# Altium integrated library Altera APEX II.IntLib: 30 symbols (part 15 of 15)
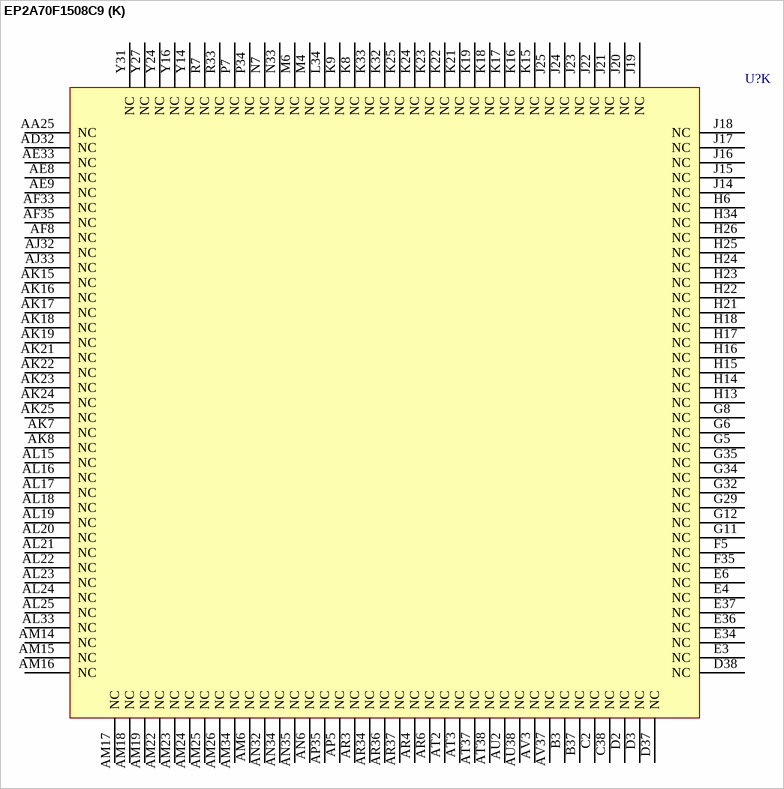
[diagram p144: symbol EP2A70F1508C9]

## EP2A70F1508C9
designator U?
APEX II, 1.5V FPGA with 4 PLLs, 1060 I/O pins, Commercial Grade, Speed Grade 9; Published: 23-Sep-2002; LatestRevisionDate: 13-Apr-2006; LatestRevisionNote: IPC-7351 Footprint Added.; DatasheetVersion: ver3.0, Aug-2002; PackageVersion: ver14.1, Oct-2005; PackageReference: FBGA1508; Publisher: Altium Limited; PackageDescription: 1508-Ball FineLine Ball Grid Array (FBGA1508) - Flip Chip; Code_JEDEC: MS-034-AAU-1; ComponentLink1Description: Manufacturer Link; ComponentLink1URL: http://www.altera.com/products/devices/apex2/ap2-index.html; ComponentLink2Description: Datasheet; ComponentLink2URL: http://www.altera.com/literature/ds/ds_ap2.pdf
footprint FBGA1508 (BGA, 1508-Leads, Body 40x40mm, Pitch 1mm)
3D model EP2A70-FBGA1508 (1508-Ball FineLine Ball Grid Array (FBGA1508) - Flip Chip)
part A pins: A21 IO/FlexDiff_RX73p (io), A22 IO/RDYnBSY/FlexDiff_RX26p (io), A23 IO/FlexDiff_RX76p (io), A24 IO/DATA1/FlexDiff_RX22p (io), A25 VCCIO1 (power), A26 IO/FlexDiff_RX18p (io), A28 IO/FlexDiff_RX17p (io), A29 IO/FlexDiff_RX79p (io), A30 IO/FlexDiff_RX82n (io), A31 IO/FlexDiff_RX84n (io), A32 IO/FlexDiff_RX09n (io), A33 IO/FlexDiff_RX07n (io), A34 IO/FlexDiff_RX05n (io), A35 IO/FlexDiff_RX04n (io), A36 VCCIO1 (power), B21 IO/FlexDiff_RX73n (io), B22 IO/FlexDiff_RX26n (io), B23 IO/FlexDiff_RX76n (io), B24 IO/FlexDiff_RX22n (io), B25 IO/FlexDiff_RX20p (io), B26 IO/FlexDiff_RX20n (io), B27 IO/FlexDiff_RX18n (io), B28 IO/FlexDiff_RX17n (io), B29 IO/FlexDiff_RX79n (io), B30 IO/FlexDiff_RX82p (io), B31 IO/FlexDiff_RX84p (io), B32 IO/FlexDiff_RX09p (io), B33 IO/FlexDiff_RX07p (io), B34 IO/FlexDiff_RX05p (io), B35 IO/FlexDiff_RX04p (io), B36 IO/DATA4/FlexDiff_RX01n (io), C20 IO/FlexDiff_RX28p (io), C21 IO/FlexDiff_RX27p (io), C22 IO/FlexDiff_RX75p (io), C23 IO/FlexDiff_RX24p (io), C24 IO/FlexDiff_RX21p (io), C25 IO/FlexDiff_RX19p (io), C26 IO/FlexDiff_RX77p (io), C27 IO/FlexDiff_RX78p (io), C28 IO/FlexDiff_RX16p (io), C29 IO/FlexDiff_RX12n (io), C30 IO/FlexDiff_RX11n (io), C31 IO/FlexDiff_RX10n (io), C32 IO/FlexDiff_RX08n (io), C33 IO/FlexDiff_RX06n (io), C34 IO/FlexDiff_RX85n (io), C35 IO/FlexDiff_RX86n (io), C36 IO/FlexDiff_RX01p (io), D20 IO/FlexDiff_RX28n (io), D21 IO/INIT_DONE/FlexDiff_RX27n (io), D22 IO/FlexDiff_RX75n (io), D23 IO/CLKUSR/FlexDiff_RX24n (io), D24 IO/FlexDiff_RX21n (io), D25 IO/FlexDiff_RX19n (io), D26 IO/FlexDiff_RX77n (io), D27 IO/FlexDiff_RX78n (io), D28 IO/FlexDiff_RX16n (io), D29 IO/FlexDiff_RX12p (io), D30 IO/FlexDiff_RX11p (io), D31 IO/FlexDiff_RX10p (io), D32 IO/FlexDiff_RX08p (io), D33 IO/FlexDiff_RX06p (io), D34 IO/FlexDiff_RX85p (io), D35 IO/FlexDiff_RX86p (io), E21 IO/FlexDiff_RX74p (io), E22 IO/FlexDiff_RX25p (io), E23 IO/FlexDiff_RX23p (io), E24 IO/FlexDiff_RX80p (io), E25 IO/FlexDiff_RX15p (io), E26 IO/FlexDiff_RX14n (io), E27 IO/FlexDiff_RX81n (io), E28 IO/FlexDiff_RX13n (io), E29 IO/FlexDiff_RX83n (io), E30 IO/DATA5/FlexDiff_RX03n (io), E31 IO/FlexDiff_RX87n (io), E32 IO/FlexDiff_RX02n (io), E33 IO/FlexDiff_RX88n (io), F21 IO/FlexDiff_RX74n (io), F22 IO/FlexDiff_RX25n (io), F23 IO/FlexDiff_RX23n (io), F24 IO/FlexDiff_RX80n (io), F25 IO/FlexDiff_RX15n (io), F26 IO/DATA3/FlexDiff_RX14p (io), F27 IO/FlexDiff_RX81p (io), F28 IO/FlexDiff_RX13p (io), F29 IO/FlexDiff_RX83p (io), F30 IO/FlexDiff_RX03p (io), F31 IO/FlexDiff_RX87p (io), F32 IO/FlexDiff_RX02p (io), F33 IO/FlexDiff_RX88p (io), G23 IO (io), G24 VREFC1 (power), G25 IO/DATA2 (io), G26 IO (io), G27 IO (io), G31 VCCIO1 (power), H20 VCCIO1 (power), L21 VCCIO1 (power), L22 VCCIO1 (power), L23 VCCIO1 (power)
part B pins: A4 VCCIO2 (power), A5 IO/FlexDiff_RX32n (io), A6 IO/FlexDiff_RX33p (io), A7 IO/FlexDiff_RX35n (io), A8 IO/FlexDiff_RX37n (io), A9 IO/FlexDiff_RX61n (io), A10 IO/FlexDiff_RX63n (io), A11 IO/FlexDiff_RX66p (io), A12 IO/FlexDiff_RX45p (io), A14 IO/FlexDiff_RX46p (io), A15 VCCIO2 (power), A16 IO/FlexDiff_RX50p (io), A17 IO/FlexDiff_RX69p (io), A18 IO/FlexDiff_RX54p (io), A19 IO/FlexDiff_RX55p (io), A20 IO/FlexDiff_RX72p (io), B4 IO/FlexDiff_RX29n (io), B5 IO/FlexDiff_RX32p (io), B6 IO/FlexDiff_RX33n (io), B7 IO/FlexDiff_RX35p (io), B8 IO/FlexDiff_RX37p (io), B9 IO/FlexDiff_RX61p (io), B10 IO/FlexDiff_RX63p (io), B11 IO/FlexDiff_RX66n (io), B12 IO/FlexDiff_RX45n (io), B13 IO/FlexDiff_RX46n (io), B14 IO/FlexDiff_RX48n (io), B15 IO/FlexDiff_RX48p (io), B16 IO/FlexDiff_RX50n (io), B17 IO/FlexDiff_RX69n (io), B18 IO/FlexDiff_RX54n (io), B19 IO/FlexDiff_RX55n (io), B20 IO/FlexDiff_RX72n (io), C4 IO/FlexDiff_RX29p (io), C5 IO/FlexDiff_RX59n (io), C6 IO/FlexDiff_RX60n (io), C7 IO/FlexDiff_RX34n (io), C8 IO/FlexDiff_RX36n (io), C9 IO/FlexDiff_RX38n (io), C10 IO/FlexDiff_RX39n (io), C11 IO/FlexDiff_RX40n (io), C12 IO/FlexDiff_RX44p (io), C13 IO/FlexDiff_RX67p (io), C14 IO/FlexDiff_RX68p (io), C15 IO/FlexDiff_RX47p (io), C16 IO/FlexDiff_RX49p (io), C17 IO/FlexDiff_RX52p (io), C18 IO/FlexDiff_RX70p (io), C19 IO/FlexDiff_RX71p (io), D5 IO/FlexDiff_RX59p (io), D6 IO/FlexDiff_RX60p (io), D7 IO/FlexDiff_RX34p (io), D8 IO/FlexDiff_RX36p (io), D9 IO/FlexDiff_RX38p (io), D10 IO/FlexDiff_RX39p (io), D11 IO/FlexDiff_RX40p (io), D12 IO/FlexDiff_RX44n (io), D13 IO/FlexDiff_RX67n (io), D14 IO/FlexDiff_RX68n (io), D15 IO/FlexDiff_RX47n (io), D16 IO/FlexDiff_RX49n (io), D17 IO/FlexDiff_RX52n (io), D18 IO/FlexDiff_RX70n (io), D19 IO/FlexDiff_RX71n (io), E7 IO/FlexDiff_RX57n (io), E8 IO/FlexDiff_RX30n (io), E9 IO/FlexDiff_RX58n (io), E10 IO/FlexDiff_RX31n (io), E11 IO/FlexDiff_RX62n (io), E12 IO/FlexDiff_RX41n (io), E13 IO/FlexDiff_RX64n (io), E14 IO/FlexDiff_RX42n (io), E15 IO/FlexDiff_RX43p (io), E16 IO/FlexDiff_RX65p (io), E17 IO/FlexDiff_RX51p (io), E18 IO/FlexDiff_RX53p (io), E19 VCCIO2 (power), E20 IO/FlexDiff_RX56p (io), F7 IO/FlexDiff_RX57p (io), F8 IO/FlexDiff_RX30p (io), F9 IO/FlexDiff_RX58p (io), F10 IO/FlexDiff_RX31p (io), F11 IO/FlexDiff_RX62p (io), F12 IO/FlexDiff_RX41p (io), F13 IO/FlexDiff_RX64p (io), F14 IO/FlexDiff_RX42p (io), F15 IO/FlexDiff_RX43n (io), F16 IO/FlexDiff_RX65n (io), F17 IO/FlexDiff_RX51n (io), F18 IO/FlexDiff_RX53n (io), F20 IO/FlexDiff_RX56n (io), G9 VCCIO2 (power), G13 VREFC2 (power), G14 IO (io), G15 IO (io), G16 IO (io), G17 IO (io), L17 VCCIO2 (power), L18 VCCIO2 (power), L19 VCCIO2 (power)
part C pins: D1 VCCIO3 (power), E1 IO/TrueDiff_RX01p (io), E2 IO/TrueDiff_RX01n (io), F1 IO/TrueDiff_RX03p (io), F2 IO/TrueDiff_RX03n (io), F3 IO/TrueDiff_RX02n (io), F4 IO/TrueDiff_RX02p (io), G1 IO/TrueDiff_RX05p (io), G2 IO/TrueDiff_RX05n (io), G3 IO/TrueDiff_RX04n (io), G4 IO/TrueDiff_RX04p (io), G10 IO (io), H1 IO/TrueDiff_RX07p (io), H2 IO/TrueDiff_RX07n (io), H3 IO/TrueDiff_RX06n (io), H4 IO/TrueDiff_RX06p (io), H5 IO (io), H7 IO (io), H8 VCCIO3 (power), H9 IO (io), H10 IO (io), H11 IO (io), H12 IO (io), J1 IO/TrueDiff_RX08n (io), J2 IO/TrueDiff_RX08p (io), J3 IO/TrueDiff_RX09p (io), J4 IO/TrueDiff_RX09n (io), J5 IO (io), J6 IO (io), J7 IO (io), J8 IO (io), J9 IO/RXLOCK1 (io), J10 IO (io), J11 IO (io), J12 IO (io), J13 IO (io), K1 IO/TrueDiff_RX10n (io), K2 IO/TrueDiff_RX10p (io), K3 IO/TrueDiff_RX11p (io), K4 IO/TrueDiff_RX11n (io), K5 IO (io), K6 IO (io), K7 IO (io), K10 IO (io), K11 IO (io), K12 IO (io), K13 IO (io), K14 IO (io), L1 IO/TrueDiff_RX12n (io), L2 IO/TrueDiff_RX12p (io), L3 IO/TrueDiff_RX13p (io), L4 IO/TrueDiff_RX13n (io), L5 IO (io), L6 IO (io), L7 IO (io), L8 IO (io), L9 IO (io), L10 IO (io), L11 IO (io), L12 IO (io), L13 IO (io), L14 IO (io), L15 IO (io), M1 IO/TrueDiff_RX14n (io), M2 IO/TrueDiff_RX14p (io), M3 IO (io), M5 IO (io), M7 IO (io), M8 IO (io), M9 IO (io), M10 IO (io), M11 IO (io), M12 IO (io), M13 IO (io), M14 IO (io), M15 IO (io), N2 IO/TrueDiff_RX15p (io), N3 IO (io), N4 IO (io), N5 IO (io), N6 IO (io), N8 IO (io), N9 IO (io), N10 IO (io), N11 IO (io), N12 IO (io), N13 IO (io), N14 IO (io), N15 IO (io), P1 IO/TrueDiff_RX15n (io), P2 IO/TrueDiff_RX16n (io), P3 IO (io), P4 IO (io), P5 IO (io), P6 IO (io), P8 IO (io), P9 IO (io), P10 IO (io), P11 IO (io), P12 IO (io), P13 IO (io), P14 IO (io), P15 IO (io), R1 VCCIO3 (power), R2 IO/TrueDiff_RX16p (io), R3 IO (io), R4 IO (io), R5 IO (io), R6 IO (io), R8 IO (io), R9 IO (io), R10 IO (io), R11 IO (io), R12 IO (io), R13 IO (io), R14 IO (io), R15 IO (io), R16 VCCIO3 (power), T1 IO/TrueDiff_RX17p (io), T2 IO/TrueDiff_RX17n (io), T3 IO (io), T4 IO (io), T5 IO (io), T6 IO (io), T7 IO (io), T8 IO (io), T9 IO (io), T10 IO (io), T11 IO (io), T12 IO (io), T13 IO (io), T14 IO (io), T15 IO (io), U1 IO/TrueDiff_RX18n (io), U2 IO/TrueDiff_RX18p (io), U3 IO (io), U4 IO (io), U5 IO (io), U6 IO (io), U7 IO (io), U8 IO (io), U9 IO (io), U10 IO (io), U12 IO (io), U13 IO (io), U14 IO (io), U15 IO (io), U16 VCCIO3 (power), V1 IO/RXCLK_IN1n (io), V2 IO/RXCLK_IN1p (io), V3 IO (io), V4 IO (io), V5 IO (io), V6 IO (io), V7 IO (io), V8 IO (io), V9 IO (io), V10 IO (io), V13 IO (io), V14 IO (io), V15 IO (io), W1 CLK7p (in), W2 IO/CLK7n (io), W3 CLK5p (in), W4 IO/CLK5n (io), W5 IO (io), W6 IO (io), W7 IO (io), W8 VREFC3 (power), W9 IO (io), W10 IO/LOCK3 (io), W13 IO (io), W14 IO (io), W15 IO (io), W16 VCCIO3 (power), Y3 CLKLK_OUT1p (out), Y4 IO/CLKLK_OUT1n (io), Y5 IO (io), Y8 VCCIO3 (power)
part D pins: AA1 CLK3p (in), AA2 IO/CLK3n (io), AA3 CLKLK_FB1p, AA4 IO/CLKLK_FB1n (io), AA5 VCCIO4 (power), AA6 IO (io), AA8 IO/LOCK1 (io), AA9 IO (io), AA10 IO (io), AA13 VREFC4 (power), AA14 IO (io), AA16 VCCIO4 (power), AB1 IO/RXCLK_IN2n (io), AB2 IO/RXCLK_IN2p (io), AB3 IO (io), AB4 IO (io), AB5 IO (io), AB6 IO/RXLOCK2 (io), AB7 IO (io), AB8 IO (io), AB9 IO (io), AB10 IO (io), AB13 IO (io), AB14 IO (io), AB15 IO (io), AC1 IO/TrueDiff_RX36n (io), AC2 IO/TrueDiff_RX36p (io), AC3 IO (io), AC4 IO (io), AC5 IO (io), AC6 IO (io), AC7 IO (io), AC8 IO (io), AC9 IO (io), AC10 IO (io), AC12 IO (io), AC13 IO (io), AC14 IO (io), AC15 IO (io), AC16 VCCIO4 (power), AD1 IO/TrueDiff_RX35p (io), AD2 IO/TrueDiff_RX35n (io), AD3 IO (io), AD4 IO (io), AD5 IO (io), AD6 IO (io), AD7 IO (io), AD8 IO (io), AD9 IO (io), AD10 IO (io), AD11 IO (io), AD12 IO (io), AD13 IO (io), AD14 IO (io), AD15 IO (io), AE1 VCCIO4 (power), AE2 IO/TrueDiff_RX34p (io), AE3 IO (io), AE4 IO (io), AE5 IO (io), AE6 IO (io), AE7 IO (io), AE10 IO (io), AE11 IO (io), AE12 IO (io), AE13 IO (io), AE14 IO (io), AE15 IO (io), AE16 VCCIO4 (power), AF1 IO/TrueDiff_RX33n (io), AF2 IO/TrueDiff_RX34n (io), AF3 IO (io), AF4 IO (io), AF5 IO (io), AF6 IO (io), AF7 IO (io), AF9 IO (io), AF10 IO (io), AF11 IO (io), AF12 IO (io), AF13 IO (io), AF14 IO (io), AF15 IO (io), AG2 IO/TrueDiff_RX33p (io), AG3 IO (io), AG4 IO (io), AG5 IO (io), AG6 IO (io), AG7 IO (io), AG8 IO (io), AG9 IO (io), AG10 IO (io), AG11 IO (io), AG12 IO (io), AG13 IO (io), AG14 IO (io), AG15 IO (io), AH1 IO/TrueDiff_RX32n (io), AH2 IO/TrueDiff_RX32p (io), AH3 IO (io), AH4 IO (io), AH5 IO (io), AH6 IO (io), AH7 IO (io), AH8 IO (io), AH9 IO (io), AH10 IO (io), AH11 IO (io), AH12 IO (io), AH13 IO (io), AH14 IO (io), AH15 IO (io), AJ1 IO/TrueDiff_RX30n (io), AJ2 IO/TrueDiff_RX30p (io), AJ3 IO/TrueDiff_RX31p (io), AJ4 IO/TrueDiff_RX31n (io), AJ5 IO (io), AJ6 IO (io), AJ7 IO (io), AJ8 IO (io), AJ9 IO (io), AJ10 IO (io), AJ11 IO (io), AJ12 IO (io), AJ13 IO (io), AJ14 IO (io), AJ15 IO (io), AK1 IO/TrueDiff_RX28n (io), AK2 IO/TrueDiff_RX28p (io), AK3 IO/TrueDiff_RX29p (io), AK4 IO/TrueDiff_RX29n (io), AK5 IO (io), AK6 IO (io), AK9 IO (io), AK10 IO (io), AK11 IO (io), AK12 IO (io), AK13 IO (io), AK14 IO (io), AL1 IO/TrueDiff_RX27p (io), AL2 IO/TrueDiff_RX27n (io), AL3 IO/TrueDiff_RX26n (io), AL4 IO/TrueDiff_RX26p (io), AL5 IO (io), AL6 IO (io), AL7 IO (io), AL8 IO (io), AL9 IO (io), AL10 IO (io), AL11 IO (io), AL12 IO (io), AL13 IO (io), AL14 IO (io), AM1 IO/TrueDiff_RX25p (io), AM2 IO/TrueDiff_RX25n (io), AM3 IO/TrueDiff_RX24n (io), AM4 IO/TrueDiff_RX24p (io), AM5 IO (io), AM7 IO (io), AM8 VCCIO4 (power), AM9 IO (io), AM10 IO (io), AM11 IO (io), AM12 IO (io), AM13 IO (io), AN1 IO/TrueDiff_RX23p (io), AN2 IO/TrueDiff_RX23n (io), AN3 IO/TrueDiff_RX22n (io), AN4 IO/TrueDiff_RX22p (io), AN5 IO (io), AN8 IO (io), AN10 IO (io), AN11 IO (io), AN12 IO (io), AP1 IO/TrueDiff_RX21p (io), AP2 IO/TrueDiff_RX21n (io), AP3 IO/TrueDiff_RX20n (io), AP4 IO/TrueDiff_RX20p (io), AR1 IO/TrueDiff_RX19p (io), AR2 IO/TrueDiff_RX19n (io), AT1 VCCIO4 (power), Y1 CLK1p (in), Y2 IO/CLK1n (io)
part E pins: AJ17 VCCIO5 (power), AJ18 VCCIO5 (power), AJ19 VCCIO5 (power), AM20 VCCIO5 (power), AN9 VCCIO5 (power), AN13 IO (io), AN14 IO (io), AN15 IO (io), AN16 VREFC5 (power), AN17 IO (io), AP7 IO/FlexDiff_TX88p (io), AP8 IO/FlexDiff_TX30p (io), AP9 IO/FlexDiff_TX87p (io), AP10 IO/FlexDiff_TX31p (io), AP11 IO/FlexDiff_TX83p (io), AP12 IO/FlexDiff_TX41p (io), AP13 IO/FlexDiff_TX81p (io), AP14 IO/FlexDiff_TX42p (io), AP15 IO/FlexDiff_TX43n (io), AP16 IO/FlexDiff_TX80n (io), AP17 IO/FlexDiff_TX51n (io), AP18 IO/FlexDiff_TX53n (io), AP19 IO/FlexDiff_TX74n (io), AR7 IO/FlexDiff_TX88n (io), AR8 IO/FlexDiff_TX30n (io), AR9 IO/FlexDiff_TX87n (io), AR10 IO/FlexDiff_TX31n (io), AR11 IO/FlexDiff_TX83n (io), AR12 IO/FlexDiff_TX41n (io), AR13 IO/FlexDiff_TX81n (io), AR14 IO/FlexDiff_TX42n (io), AR15 IO/FlexDiff_TX43p (io), AR16 IO/FlexDiff_TX80p (io), AR17 IO/FlexDiff_TX51p (io), AR18 IO/FlexDiff_TX53p (io), AR19 IO/FlexDiff_TX74p (io), AT5 IO/FlexDiff_TX86p (io), AT6 IO/FlexDiff_TX85p (io), AT7 IO/FlexDiff_TX34p (io), AT8 IO/FlexDiff_TX36p (io), AT9 IO/FlexDiff_TX38p (io), AT10 IO/FlexDiff_TX39p (io), AT11 IO/FlexDiff_TX40p (io), AT12 IO/FlexDiff_TX44n (io), AT13 IO/FlexDiff_TX78n (io), AT14 IO/FlexDiff_TX77n (io), AT15 IO/FlexDiff_TX47n (io), AT16 IO/FlexDiff_TX49n (io), AT17 IO/FlexDiff_TX52n (io), AT18 IO/FlexDiff_TX75n (io), AT19 IO/FlexDiff_TX55n (io), AT20 IO/FlexDiff_TX56n (io), AU4 IO/FlexDiff_TX29p (io), AU5 IO/FlexDiff_TX86n (io), AU6 IO/FlexDiff_TX85n (io), AU7 IO/FlexDiff_TX34n (io), AU8 IO/FlexDiff_TX36n (io), AU9 IO/FlexDiff_TX38n (io), AU10 IO/FlexDiff_TX39n (io), AU11 IO/FlexDiff_TX40n (io), AU12 IO/FlexDiff_TX44p (io), AU13 IO/FlexDiff_TX78p (io), AU14 IO/FlexDiff_TX77p (io), AU15 IO/FlexDiff_TX47p (io), AU16 IO/FlexDiff_TX49p (io), AU17 IO/FlexDiff_TX52p (io), AU18 IO/FlexDiff_TX75p (io), AU19 IO/FlexDiff_TX55p (io), AU20 IO/FlexDiff_TX56p (io), AV4 IO/FlexDiff_TX29n (io), AV5 IO/FlexDiff_TX32p (io), AV6 IO/FlexDiff_TX33p (io), AV7 IO/FlexDiff_TX35p (io), AV8 IO/FlexDiff_TX37p (io), AV9 IO/FlexDiff_TX84p (io), AV10 IO/FlexDiff_TX82p (io), AV11 IO/FlexDiff_TX79n (io), AV12 IO/FlexDiff_TX45n (io), AV13 IO/FlexDiff_TX46n (io), AV14 IO/FlexDiff_TX48n (io), AV15 IO/FlexDiff_TX48p (io), AV16 IO/FlexDiff_TX50n (io), AV17 IO/FlexDiff_TX76n (io), AV18 IO/FlexDiff_TX54n (io), AV19 IO/FlexDiff_TX73n (io), AW4 VCCIO5 (power), AW5 IO/FlexDiff_TX32n (io), AW6 IO/FlexDiff_TX33n (io), AW7 IO/FlexDiff_TX35n (io), AW8 IO/FlexDiff_TX37n (io), AW9 IO/FlexDiff_TX84n (io), AW10 IO/FlexDiff_TX82n (io), AW11 IO/FlexDiff_TX79p (io), AW12 IO/FlexDiff_TX45p (io), AW14 IO/FlexDiff_TX46p (io), AW15 VCCIO5 (power), AW16 IO/FlexDiff_TX50p (io), AW17 IO/FlexDiff_TX76p (io), AW18 IO/FlexDiff_TX54p (io), AW19 IO/FlexDiff_TX73p (io)
part F pins: AJ21 VCCIO6 (power), AJ22 VCCIO6 (power), AJ23 VCCIO6 (power), AN23 IO/CDS_ENA (io), AN24 IO (io), AN25 IO (io), AN26 IO (io), AN27 VREFC6 (power), AN31 VCCIO6 (power), AP20 IO/FlexDiff_TX28n (io), AP22 IO/FlexDiff_TX25n (io), AP23 IO/FlexDiff_TX23n (io), AP24 IO/FlexDiff_TX65n (io), AP25 IO/FlexDiff_TX15n (io), AP26 IO/FlexDiff_TX14p (io), AP27 IO/FlexDiff_TX64p (io), AP28 IO/FlexDiff_TX13p (io), AP29 IO/FlexDiff_TX62p (io), AP30 IO/FlexDiff_TX03p (io), AP31 IO/FlexDiff_TX58p (io), AP32 IO/FlexDiff_TX02p (io), AP33 IO/FlexDiff_TX57p (io), AR20 IO/FlexDiff_TX28p (io), AR21 VCCIO6 (power), AR22 IO/FlexDiff_TX25p (io), AR23 IO/FlexDiff_TX23p (io), AR24 IO/FlexDiff_TX65p (io), AR25 IO/FlexDiff_TX15p (io), AR26 IO/FlexDiff_TX14n (io), AR27 IO/FlexDiff_TX64n (io), AR28 IO/FlexDiff_TX13n (io), AR29 IO/FlexDiff_TX62n (io), AR30 IO/FlexDiff_TX03n (io), AR31 IO/FlexDiff_TX58n (io), AR32 IO/FlexDiff_TX02n (io), AR33 IO/FlexDiff_TX57n (io), AT21 IO/FlexDiff_TX71n (io), AT22 IO/FlexDiff_TX70n (io), AT23 IO/FlexDiff_TX24n (io), AT24 IO/FlexDiff_TX21n (io), AT25 IO/FlexDiff_TX19n (io), AT26 IO/FlexDiff_TX68n (io), AT27 IO/FlexDiff_TX67n (io), AT28 IO/FlexDiff_TX16n (io), AT29 IO/FlexDiff_TX12p (io), AT30 IO/FlexDiff_TX11p (io), AT31 IO/FlexDiff_TX10p (io), AT32 IO/FlexDiff_TX08p (io), AT33 IO/FlexDiff_TX06p (io), AT34 IO/FlexDiff_TX60p (io), AT35 IO/FlexDiff_TX59p (io), AU21 IO/FlexDiff_TX71p (io), AU22 IO/FlexDiff_TX70p (io), AU23 IO/FlexDiff_TX24p (io), AU24 IO/FlexDiff_TX21p (io), AU25 IO/FlexDiff_TX19p (io), AU26 IO/FlexDiff_TX68p (io), AU27 IO/FlexDiff_TX67p (io), AU28 IO/FlexDiff_TX16p (io), AU29 IO/FlexDiff_TX12n (io), AU30 IO/FlexDiff_TX11n (io), AU31 IO/FlexDiff_TX10n (io), AU32 IO/FlexDiff_TX08n (io), AU33 IO/FlexDiff_TX06n (io), AU34 IO/FlexDiff_TX60n (io), AU35 IO/FlexDiff_TX59n (io), AU36 IO/FlexDiff_TX01p (io), AV20 IO/FlexDiff_TX72n (io), AV21 IO/FlexDiff_TX27n (io), AV22 IO/FlexDiff_TX26n (io), AV23 IO/FlexDiff_TX69n (io), AV24 IO/FlexDiff_TX22n (io), AV25 IO/FlexDiff_TX20p (io), AV26 IO/FlexDiff_TX20n (io), AV27 IO/FlexDiff_TX18n (io), AV28 IO/FlexDiff_TX17n (io), AV29 IO/FlexDiff_TX66n (io), AV30 IO/FlexDiff_TX63p (io), AV31 IO/FlexDiff_TX61p (io), AV32 IO/FlexDiff_TX09p (io), AV33 IO/FlexDiff_TX07p (io), AV34 IO/FlexDiff_TX05p (io), AV35 IO/FlexDiff_TX04p (io), AV36 IO/FlexDiff_TX01n (io), AW20 IO/FlexDiff_TX72p (io), AW21 IO/FlexDiff_TX27p (io), AW22 IO/FlexDiff_TX26p (io), AW23 IO/FlexDiff_TX69p (io), AW24 IO/FlexDiff_TX22p (io), AW25 VCCIO6 (power), AW26 IO/FlexDiff_TX18p (io), AW28 IO/FlexDiff_TX17p (io), AW29 IO/FlexDiff_TX66p (io), AW30 IO/FlexDiff_TX63n (io), AW31 IO/FlexDiff_TX61n (io), AW32 IO/FlexDiff_TX09n (io), AW33 IO/FlexDiff_TX07n (io), AW34 IO/FlexDiff_TX05n (io), AW35 IO/FlexDiff_TX04n (io), AW36 VCCIO6 (power)
part G pins: AA24 VCCIO7 (power), AA30 IO/LOCK2 (io), AA31 IO (io), AA32 IO (io), AA33 IO (io), AA34 IO (io), AA35 IO/DEV_OE (io), AA36 IO/CLK6n (io), AA37 CLK6p (in), AA38 IO/CLK8n (io), AA39 CLK8p (in), AB25 VREFC7 (power), AB26 IO (io), AB27 IO (io), AB28 IO (io), AB30 IO (io), AB31 IO (io), AB32 IO (io), AB33 IO (io), AB34 IO (io), AB35 IO (io), AB36 IO (io), AB37 IO (io), AB38 IO (io), AB39 IO (io), AC24 VCCIO7 (power), AC25 IO (io), AC26 IO (io), AC27 IO (io), AC28 IO (io), AC30 IO (io), AC31 IO (io), AC32 IO (io), AC33 IO (io), AC34 IO (io), AC35 IO (io), AC36 IO (io), AC37 IO (io), AC38 IO/TXCLK_OUT2n (io), AC39 IO/TXCLK_OUT2p (io), AD25 IO (io), AD26 IO (io), AD27 IO (io), AD28 IO (io), AD29 IO (io), AD30 IO (io), AD31 IO (io), AD33 IO (io), AD34 IO (io), AD35 IO (io), AD36 IO (io), AD37 IO (io), AD38 IO/TrueDiff_TX36p (io), AD39 IO/TrueDiff_TX36n (io), AE24 VCCIO7 (power), AE25 IO (io), AE26 IO (io), AE27 IO (io), AE28 IO (io), AE29 IO (io), AE30 IO (io), AE31 IO (io), AE32 IO (io), AE34 IO (io), AE35 IO (io), AE36 IO (io), AE37 IO (io), AE38 IO/TrueDiff_TX35n (io), AE39 VCCIO7 (power), AF25 IO (io), AF26 IO (io), AF27 IO (io), AF28 IO (io), AF29 IO (io), AF30 IO (io), AF31 IO (io), AF32 IO (io), AF34 IO (io), AF36 IO (io), AF37 IO (io), AF38 IO/TrueDiff_TX35p (io), AF39 IO/TrueDiff_TX34p (io), AG25 IO (io), AG26 IO (io), AG27 IO (io), AG28 IO (io), AG29 IO (io), AG30 IO (io), AG31 IO (io), AG32 IO (io), AG33 IO (io), AG34 IO (io), AG35 IO (io), AG36 IO (io), AG37 IO (io), AG38 IO/TrueDiff_TX34n (io), AH25 IO (io), AH26 IO (io), AH27 IO (io), AH28 IO (io), AH29 IO (io), AH30 IO (io), AH31 IO (io), AH32 IO (io), AH33 IO (io), AH34 IO (io), AH35 IO (io), AH36 IO/TrueDiff_TX33n (io), AH37 IO/TrueDiff_TX33p (io), AH38 IO/TrueDiff_TX32p (io), AH39 IO/TrueDiff_TX32n (io), AJ25 IO (io), AJ26 IO (io), AJ27 IO (io), AJ28 IO (io), AJ29 IO (io), AJ30 IO (io), AJ31 IO (io), AJ34 IO (io), AJ35 IO (io), AJ36 IO/TrueDiff_TX31n (io), AJ37 IO/TrueDiff_TX31p (io), AJ38 IO/TrueDiff_TX30p (io), AJ39 IO/TrueDiff_TX30n (io), AK26 IO (io), AK27 IO (io), AK28 IO (io), AK29 IO (io), AK30 IO (io), AK31 IO (io), AK32 IO (io), AK33 IO (io), AK34 IO (io), AK35 IO (io), AK36 IO/TrueDiff_TX29n (io), AK37 IO/TrueDiff_TX29p (io), AK38 IO/TrueDiff_TX28p (io), AK39 IO/TrueDiff_TX28n (io), AL26 IO (io), AL27 IO (io), AL28 IO (io), AL29 IO (io), AL30 IO (io), AL31 IO (io), AL32 IO (io), AL34 IO (io), AL35 IO (io), AL36 IO/TrueDiff_TX26p (io), AL37 IO/TrueDiff_TX26n (io), AL38 IO/TrueDiff_TX27n (io), AL39 IO/TrueDiff_TX27p (io), AM27 IO (io), AM28 IO (io), AM29 IO/TXLOCK2 (io), AM30 IO (io), AM31 IO (io), AM32 VCCIO7 (power), AM33 IO (io), AM35 IO (io), AM36 IO/TrueDiff_TX24p (io), AM37 IO/TrueDiff_TX24n (io), AM38 IO/TrueDiff_TX25n (io), AM39 IO/TrueDiff_TX25p (io), AN28 IO (io), AN29 IO (io), AN30 IO (io), AN36 IO/TrueDiff_TX22p (io), AN37 IO/TrueDiff_TX22n (io), AN38 IO/TrueDiff_TX23n (io), AN39 IO/TrueDiff_TX23p (io), AP36 IO/TrueDiff_TX20p (io), AP37 IO/TrueDiff_TX20n (io), AP38 IO/TrueDiff_TX21n (io), AP39 IO/TrueDiff_TX21p (io), AR38 IO/TrueDiff_TX19n (io), AR39 IO/TrueDiff_TX19p (io), AT39 VCCIO7 (power), Y32 VCCIO7 (power), Y36 IO/CLKLK_OUT2n (io), Y37 CLKLK_OUT2p (out)
part H pins: D39 VCCIO8 (power), E38 IO/TrueDiff_TX01n (io), E39 IO/TrueDiff_TX01p (io), F36 IO/TrueDiff_TX02p (io), F37 IO/TrueDiff_TX02n (io), F38 IO/TrueDiff_TX03n (io), F39 IO/TrueDiff_TX03p (io), G28 IO (io), G30 IO/nWS (io), G36 IO/TrueDiff_TX04p (io), G37 IO/TrueDiff_TX04n (io), G38 IO/TrueDiff_TX05n (io), G39 IO/TrueDiff_TX05p (io), H27 IO/DATA6 (io), H28 IO/LOCK4 (io), H29 IO/CS (io), H30 IO/nCS (io), H31 IO/nRS (io), H32 VCCIO8 (power), H33 IO (io), H35 IO (io), H36 IO/TrueDiff_TX06p (io), H37 IO/TrueDiff_TX06n (io), H38 IO/TrueDiff_TX07n (io), H39 IO/TrueDiff_TX07p (io), J26 IO (io), J27 IO (io), J28 IO (io), J29 IO/TXLOCK1 (io), J30 IO/DEV_CLRn (io), J31 IO (io), J32 IO (io), J33 IO (io), J34 IO (io), J35 IO (io), J36 IO/TrueDiff_TX09n (io), J37 IO/TrueDiff_TX09p (io), J38 IO/TrueDiff_TX08p (io), J39 IO/TrueDiff_TX08n (io), K26 IO (io), K27 IO (io), K28 IO (io), K29 IO (io), K30 IO (io), K31 IO (io), K34 IO (io), K35 IO (io), K36 IO/TrueDiff_TX11n (io), K37 IO/TrueDiff_TX11p (io), K38 IO/TrueDiff_TX10p (io), K39 IO/TrueDiff_TX10n (io), L25 IO (io), L26 IO (io), L27 IO (io), L28 IO (io), L29 IO (io), L30 IO (io), L31 IO (io), L32 IO (io), L33 IO (io), L35 IO (io), L36 IO/TrueDiff_TX13n (io), L37 IO/TrueDiff_TX13p (io), L38 IO/TrueDiff_TX12p (io), L39 IO/TrueDiff_TX12n (io), M25 IO (io), M26 IO (io), M27 IO (io), M28 IO (io), M29 IO (io), M30 IO (io), M31 IO (io), M32 IO (io), M33 IO (io), M34 IO (io), M35 IO (io), M36 IO/TrueDiff_TX15n (io), M37 IO/TrueDiff_TX15p (io), M38 IO/TrueDiff_TX14p (io), M39 IO/TrueDiff_TX14n (io), N25 IO (io), N26 IO (io), N27 IO (io), N28 IO (io), N29 IO (io), N30 IO (io), N31 IO (io), N32 IO (io), N34 IO (io), N35 IO (io), N36 IO (io), N37 IO (io), N38 IO/TrueDiff_TX16n (io), P25 IO (io), P26 IO (io), P27 IO (io), P28 IO (io), P29 IO (io), P30 IO (io), P31 IO (io), P32 IO (io), P33 IO (io), P35 IO (io), P36 IO (io), P37 IO (io), P38 IO/TrueDiff_TX17p (io), P39 IO/TrueDiff_TX16p (io), R24 VCCIO8 (power), R25 IO (io), R26 IO (io), R27 IO (io), R28 IO (io), R29 IO (io), R30 IO (io), R31 IO (io), R32 IO (io), R34 IO (io), R35 IO (io), R36 IO (io), R37 IO (io), R38 IO/TrueDiff_TX17n (io), R39 VCCIO8 (power), T25 IO (io), T26 IO (io), T27 IO (io), T28 IO (io), T29 IO (io), T30 IO (io), T31 IO (io), T32 IO (io), T33 IO (io), T34 IO (io), T35 IO (io), T36 IO (io), T37 IO (io), T38 IO/TrueDiff_TX18p (io), T39 IO/TrueDiff_TX18n (io), U24 VCCIO8 (power), U25 IO (io), U26 IO (io), U27 IO (io), U28 IO (io), U30 IO (io), U31 IO (io), U32 IO (io), U33 IO (io), U34 IO (io), U35 IO (io), U36 IO (io), U37 IO (io), U38 IO/TXCLK_OUT01n (io), U39 IO/TXCLK_OUT01p (io), V25 IO (io), V26 IO (io), V27 IO (io), V28 IO (io), V30 IO (io), V31 IO (io), V32 IO (io), V33 IO (io), V34 IO (io), V35 IO (io), V36 IO (io), V37 IO/DATA7 (io), V38 IO (io), V39 IO (io), W24 VCCIO8 (power), W25 IO (io), W26 IO (io), W27 IO (io), W30 IO (io), W31 IO (io), W32 VREFC8 (power), W34 IO (io), W35 VCCIO8 (power), W36 IO/CLKLK_FB2n (io), W37 CLKLK_FB2p, W38 IO/CLK4n (io), W39 CLK4p (in), Y25 IO (io), Y38 IO/CLK2n (io), Y39 CLK2p (in)
part I pins: AA26 nCE (in), AM21 FAST3 (in), AN18 TCK (in), AN19 TMS (in), AN20 CONF_DONE (in), AN22 nSTATUS (in), AP21 FAST4 (in), F19 nCEO (out), G18 FAST1 (in), G21 FAST2 (in), G22 TDO (out), H19 TRST (in), Y6 VCCSEL (in), Y7 MSEL1 (in), Y9 nCONFIG (in), Y13 PLL_ENA (in), Y15 MSEL0 (in), Y26 nIO_PULLUP (in), Y33 DATA0 (in), Y34 DCLK (in), Y35 TDI (in)
part J pins: A2 GND (power), A3 GND (power), A13 GND (power), A27 GND (power), A37 GND (power), A38 GND (power), AA7 GND (power), AA11 GND_CKLK1 (power), AA12 VCC_CKLK1 (power), AA15 VCC_CKLKA (power), AA17 GND (power), AA18 VCCINT (power), AA22 VCCINT (power), AA23 GND (power), AA27 VCC_CKLKA (power), AA28 GND_CKOUT2 (power), AA29 VCC_CKOUT2 (power), AB11 GND_CKLK7 (power), AB12 VCC_CKLK7 (power), AB16 GND (power), AB17 VCCINT (power), AB18 GND (power), AB19 VCCINT (power), AB20 GND (power), AB21 VCCINT (power), AB22 GND (power), AB23 VCCINT (power), AB24 GND (power), AB29 VCC_CKLK8 (power), AC11 GND_CKLK7 (power), AC17 GND (power), AC18 VCCINT (power), AC19 GND (power), AC20 VCCINT (power), AC21 GND (power), AC22 VCCINT (power), AC23 GND (power), AC29 GND_CKLK8 (power), AD16 GND (power), AD17 VCCINT (power), AD18 GND (power), AD19 VCCINT (power), AD20 GND (power), AD21 VCCINT (power), AD22 GND (power), AD23 VCCINT (power), AD24 GND (power), AE17 GND (power), AE18 VCCINT (power), AE19 GND (power), AE20 VCCINT (power), AE21 GND (power), AE22 VCCINT (power), AE23 GND (power), AF16 GND (power), AF17 VCCINT (power), AF18 GND (power), AF19 VCCINT (power), AF20 VCCINT (power), AF21 VCCINT (power), AF22 GND (power), AF23 VCCINT (power), AF24 GND (power), AG1 GND (power), AG16 VCCINT (power), AG17 GND (power), AG18 VCCINT (power), AG19 GND (power), AG20 VCCINT (power), AG21 GND (power), AG22 VCCINT (power), AG23 GND (power), AG24 VCCINT (power), AG39 GND (power), AH16 GND (power), AH17 VCCINT (power), AH18 GND (power), AH19 VCCINT (power), AH20 VCCINT (power), AH21 VCCINT (power), AH22 GND (power), AH23 VCCINT (power), AH24 GND (power), AJ16 VCCINT (power), AJ20 GND (power), AJ24 VCCINT (power), AK20 GND (power), AN7 GND (power), AN21 GND (power), AN33 GND (power), AP6 GND (power), AP34 GND (power), AR5 GND (power), AR35 GND (power), AT4 GND (power), AT36 GND (power), AU1 GND (power), AU3 GND (power), AU37 GND (power), AU39 GND (power), AV1 GND (power), AV2 GND (power), AV38 GND (power), AV39 GND (power), AW2 GND (power), AW3 GND (power), AW13 GND (power), AW27 GND (power), AW37 GND (power), AW38 GND (power), B1 GND (power), B2 GND (power), B38 GND (power), B39 GND (power), C1 GND (power), C3 GND (power), C37 GND (power), C39 GND (power), D4 GND (power), D36 GND (power), E5 GND (power), E35 GND (power), F6 GND (power), F34 GND (power), G7 GND (power), G19 GND (power), G20 GND (power), G33 GND (power), K20 GND (power), L16 VCCINT (power), L20 GND (power), L24 VCCINT (power), M16 GND (power), M17 VCCINT (power), M18 GND (power), M19 VCCINT (power), M20 VCCINT (power), M21 VCCINT (power), M22 GND (power), M23 VCCINT (power), M24 GND (power), N1 GND (power), N16 VCCINT (power), N17 GND (power), N18 VCCINT (power), N19 GND (power), N20 VCCINT (power), N21 GND (power), N22 VCCINT (power), N23 GND (power), N24 VCCINT (power), N39 GND (power), P16 GND (power), P17 VCCINT (power), P18 GND (power), P19 VCCINT (power), P20 VCCINT (power), P21 VCCINT (power), P22 GND (power), P23 VCCINT (power), P24 GND (power), R17 GND (power), R18 VCCINT (power), R19 GND (power), R20 VCCINT (power), R21 GND (power), R22 VCCINT (power), R23 GND (power), T16 GND (power), T17 VCCINT (power), T18 GND (power), T19 VCCINT (power), T20 GND (power), T21 VCCINT (power), T22 GND (power), T23 VCCINT (power), T24 GND (power), U11 GND_CKLK5 (power), U17 GND (power), U18 VCCINT (power), U19 GND (power), U20 VCCINT (power), U21 GND (power), U22 VCCINT (power), U23 GND (power), U29 GND_CKLK6 (power), V11 VCC_CKLK5 (power), V12 GND_CKLK5 (power), V16 GND (power), V17 VCCINT (power), V18 GND (power), V19 VCCINT (power), V20 GND (power), V21 VCCINT (power), V22 GND (power), V23 VCCINT (power), V24 GND (power), V29 VCC_CKLK6 (power), W11 GND_CKLK3 (power), W12 VCC_CKLK3 (power), W17 GND (power), W18 VCCINT (power), W22 VCCINT (power), W23 GND (power), W28 GND_CKLK4 (power), W29 VCC_CKLK4 (power), W33 GND (power), Y10 GND (power), Y11 GND_CKOUT1 (power), Y12 VCC_CKOUT1 (power), Y17 VCCINT (power), Y18 GND (power), Y22 GND (power), Y23 VCCINT (power), Y28 GND_CKLK2 (power), Y29 VCC_CKLK2 (power), Y30 GND (power)
part K pins: AA25 NC, AD32 NC, AE8 NC, AE9 NC, AE33 NC, AF8 NC, AF33 NC, AF35 NC, AJ32 NC, AJ33 NC, AK7 NC, AK8 NC, AK15 NC, AK16 NC, AK17 NC, AK18 NC, AK19 NC, AK21 NC, AK22 NC, AK23 NC, AK24 NC, AK25 NC, AL15 NC, AL16 NC, AL17 NC, AL18 NC, AL19 NC, AL20 NC, AL21 NC, AL22 NC, AL23 NC, AL24 NC, AL25 NC, AL33 NC, AM6 NC, AM14 NC, AM15 NC, AM16 NC, AM17 NC, AM18 NC, AM19 NC, AM22 NC, AM23 NC, AM24 NC, AM25 NC, AM26 NC, AM34 NC, AN6 NC, AN32 NC, AN34 NC, AN35 NC, AP5 NC, AP35 NC, AR3 NC, AR4 NC, AR6 NC, AR34 NC, AR36 NC, AR37 NC, AT2 NC, AT3 NC, AT37 NC, AT38 NC, AU2 NC, AU38 NC, AV3 NC, AV37 NC, B3 NC, B37 NC, C2 NC, C38 NC, D2 NC, D3 NC, D37 NC, D38 NC, E3 NC, E4 NC, E6 NC, E34 NC, E36 NC, E37 NC, F5 NC, F35 NC, G5 NC, G6 NC, G8 NC, G11 NC, G12 NC, G29 NC, G32 NC, G34 NC, G35 NC, H6 NC, H13 NC, H14 NC, H15 NC, H16 NC, H17 NC, H18 NC, H21 NC, H22 NC, H23 NC, H24 NC, H25 NC, H26 NC, H34 NC, J14 NC, J15 NC, J16 NC, J17 NC, J18 NC, J19 NC, J20 NC, J21 NC, J22 NC, J23 NC, J24 NC, J25 NC, K8 NC, K9 NC, K15 NC, K16 NC, K17 NC, K18 NC, K19 NC, K21 NC, K22 NC, K23 NC, K24 NC, K25 NC, K32 NC, K33 NC, L34 NC, M4 NC, M6 NC, N7 NC, N33 NC, P7 NC, P34 NC, R7 NC, R33 NC, Y14 NC, Y16 NC, Y24 NC, Y27 NC, Y31 NC
part A text: BANK 1
part B text: BANK 2
part C text: BANK 3
part D text: BANK 4
part E text: BANK 5
part F text: BANK 6
part G text: BANK 7
part H text: BANK 8